# EAGLE library part CYBLE-214015-01 (library CYBLE-214015-01)
PSoC Bluetooth 4.2 Module Source: Datasheet <http://www.cypress.com/file/331011/download>
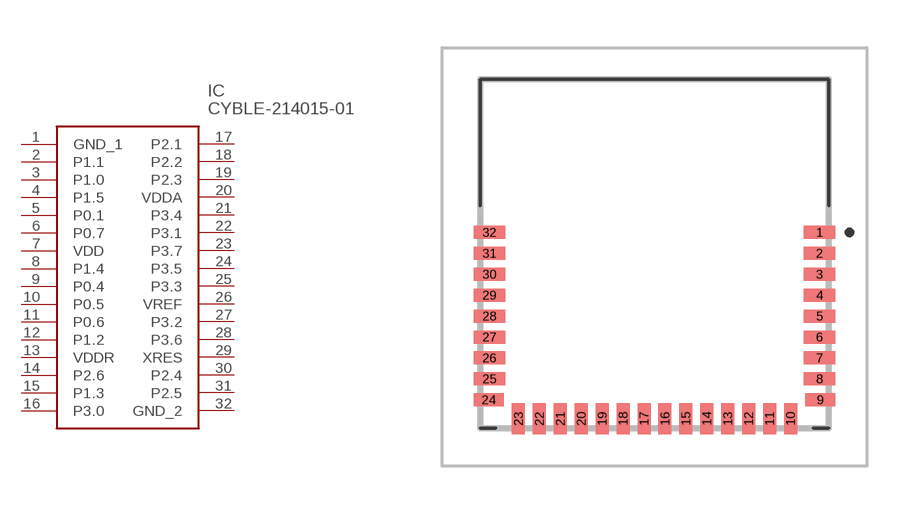
[diagram p0: symbol with the pads of CYBLE21401501; footprint CYBLE21401501]

Designator prefix IC

## CYBLE-214015-01 (Description: PSoC Bluetooth 4.2 Module; Height: 1.8mm; Manufacturer_Name: Cypress Semiconductor; Manufacturer_Part_Number: CYBLE-214015-01; Mouser_Part_Number: 727-CYBLE-214015-01; Mouser_Price-Stock: https://www.mouser.co.uk/ProductDetail/Cypress-Semiconductor/CYBLE-214015-01?qs=wd5RIQLrsJhcYt83vZQWnA%3D%3D)  [CYBLE21401501]
1  GND_1
2  P1.1
3  P1.0
4  P1.5
5  P0.1
6  P0.7
7  VDD
8  P1.4
9  P0.4
10  P0.5
11  P0.6
12  P1.2
13  VDDR
14  P2.6
15  P1.3
16  P3.0
17  P2.1
18  P2.2
19  P2.3
20  VDDA
21  P3.4
22  P3.1
23  P3.7
24  P3.5
25  P3.3
26  VREF
27  P3.2
28  P3.6
29  XRES
30  P2.4
31  P2.5
32  GND_2

## Footprint CYBLE21401501 (pad centres in mm)
CYBLE-214015-01-2
smd 0.99 x 0.41: 1 5.205,0.67; 2 5.205,0.01; 3 5.205,-0.65; 4 5.205,-1.31; 5 5.205,-1.97; 6 5.205,-2.63; 7 5.205,-3.29; 8 5.205,-3.95; 25 -5.205,-3.95; 26 -5.205,-3.29; 27 -5.205,-2.63; 28 -5.205,-1.97; 29 -5.205,-1.31; 30 -5.205,-0.65; 31 -5.205,0.01; 32 -5.205,0.67
smd 0.94 x 0.41: 9 5.23,-4.61; 24 -5.23,-4.61
smd 0.41 x 0.99: 10 4.29,-5.205; 11 3.63,-5.205; 12 2.97,-5.205; 13 2.31,-5.205; 14 1.65,-5.205; 15 0.99,-5.205; 16 0.33,-5.205; 17 -0.33,-5.205; 18 -0.99,-5.205; 19 -1.65,-5.205; 20 -2.31,-5.205; 21 -2.97,-5.205; 22 -3.63,-5.205; 23 -4.29,-5.205